# Altium footprint library PDB.PcbLib: 48 footprints (part 2 of 3)
Each footprint in its own frame and in the unit in brackets; x right, y up, seen from the top. Pads: shape width x height; smd on the part's side, far side on the other; paste and mask are expansions set on the pad; w line width, h text height; cw(c..) or ccw(c..) is an arc to the next point about the centre after c.
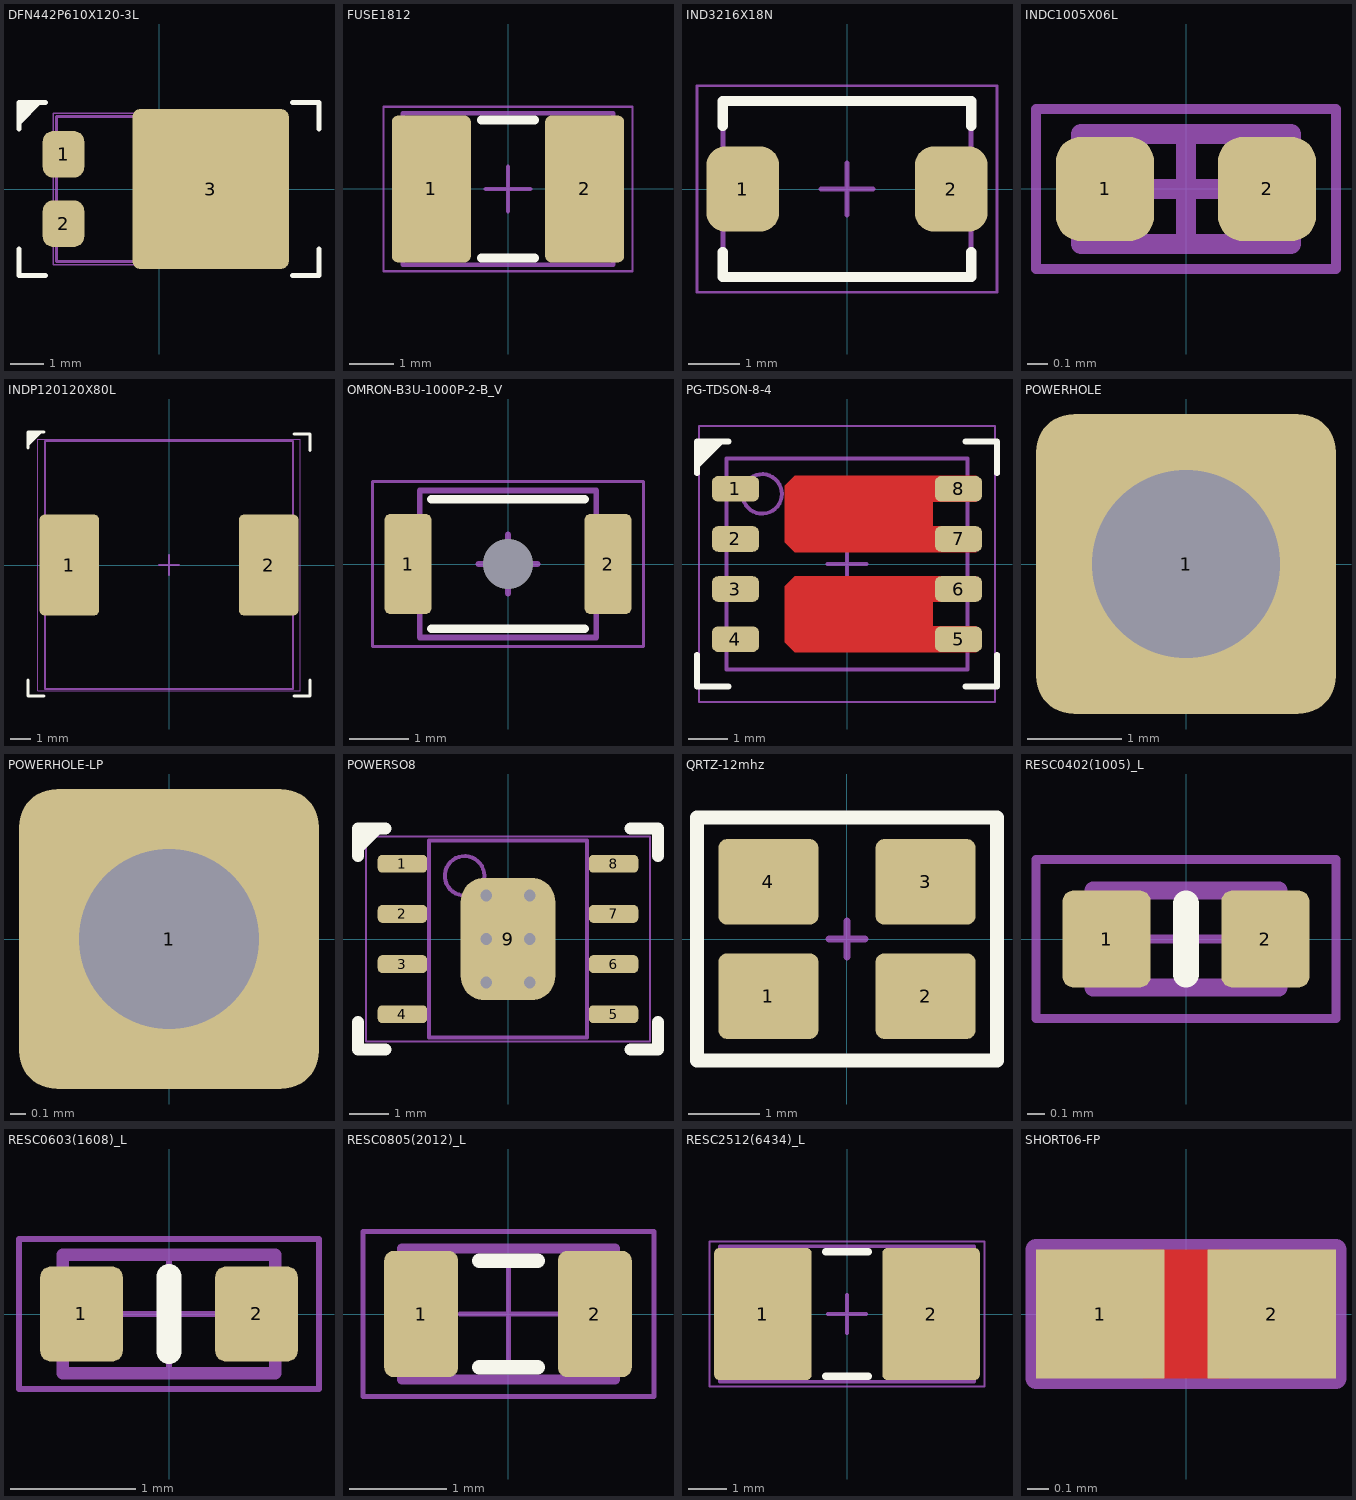
[diagram p1: the footprints below, top view; thin cyan lines are the x and y axes]

## DFN442P610X120-3L [mm] "DFN, 3-Leads, Body 4,30x6,10mm, Pitch 4,42mm, IPC High Density"
height 1.2
pads (3):
  rrect50% 1.25x1.4 smd: 1(-2.865,1.04) 2(-2.865,-1.04)
  rrect10% 4.7x4.8 smd: 3(1.55,0)
Top Overlay:
  region: -4.2,1.9 -3.5,2.6 -4.2,2.6
  lines w0.15: -4.2,-1.8 -4.2,-2.6 -3.4,-2.6 ; -4.2,1.8 -4.2,2.6 -3.4,2.6 ; 4,-2.6 4.8,-2.6 4.8,-1.8 ; 4,2.6 4.8,2.6 4.8,1.8
Mechanical 13:
  lines w0.1: -3.075,-2.175 -3.075,2.175 3.075,2.175 3.075,-2.175 -3.075,-2.175
Mechanical 15:
  lines w0.05: -3.175,-2.275 -3.175,2.275 3.175,2.275 3.175,-2.275 -3.175,-2.275
  lines w0.1: -0.5,0 0.5,0 ; 0,-0.5 0,0.5
3D body "DFN442P610X120-3L.step": height 1.2, standoff 0, extent -3.937,-2.159 4.518,2.191

## FUSE1812 [mm] "FUSE, 2-Leads, Body 4,55x3,24mm, IPC High Density"
height 1.25
pads (2):
  rrect15% 1.78x3.3 smd: 1(-1.725,0) 2(1.725,0)
Top Overlay:
  lines w0.2: -0.6,-1.55 0.6,-1.55 ; -0.6,1.55 0.6,1.55
Top Assembly:
  lines w0.1: -2.365,-1.705 -2.365,1.705 2.365,1.705 2.365,-1.705 -2.365,-1.705
Mechanical 15:
  lines w0.05: -2.8,-1.85 -2.8,1.85 2.8,1.85 2.8,-1.85 -2.8,-1.85
  lines w0.1: -0.5,0 0.5,0 ; 0,-0.5 0,0.5
3D body "User Library-1812L.STEP": height 1.34, standoff 0, extent -2.365,-1.705 2.365,1.705

## IND3216X18N [mm]
height 3.4
pads (2):
  rrect50% 1.4x1.64 smd: 1(-2.015,0) 2(2.015,0)
Top Overlay:
  lines w0.2: -2.4,-1.22 -2.4,-1.7 2.4,-1.7 2.4,-1.22 ; -2.4,1.22 -2.4,1.7 2.4,1.7 2.4,1.22
Top Assembly:
  lines w0.1: -2.4,-1.7 -2.4,1.7 2.4,1.7 2.4,-1.7 -2.4,-1.7
Mechanical 15:
  lines w0.05: -2.9,-2 -2.9,2 2.9,2 2.9,-2 -2.9,-2
  lines w0.1: -0.5,0 0.5,0 ; 0,-0.5 0,0.5
3D body "CAPM3216X18N.step": height 3.4, standoff 0, extent -2.62,-1.7 2.62,1.7

## INDC1005X06L [mm] "Chip Inductor, 2-Leads, Body 1,00x0,50mm, IPC High Density"
height 0.55
pads (2):
  rrect50% 0.49x0.52 smd: 1(-0.405,0) 2(0.405,0)
Top Assembly:
  lines w0.1: -0.525,-0.275 -0.525,0.275 0.525,0.275 0.525,-0.275 -0.525,-0.275
Mechanical 15:
  lines w0.05: -0.75,-0.4 -0.75,0.4 0.75,0.4 0.75,-0.4 -0.75,-0.4
  lines w0.1: -0.275,0 0.275,0 ; 0,-0.275 0,0.275
3D body "INDC1005X06L.step": height 0.55, standoff 0, extent -0.525,-0.275 0.525,0.275

## INDP120120X80L [mm] "Precision Wire Wound Inductor, 2-Leads, Body 12,00x12,00mm, IPC High Density"
height 8
pads (2):
  rrect15% 2.95x5 smd: 1(-4.95,0) 2(4.95,0)
Top Overlay:
  region: -7,5.9 -6.3,6.6 -7,6.6
  lines w0.15: -7,-5.7 -7,-6.5 -6.2,-6.5 ; -7,5.8 -7,6.6 -6.2,6.6 ; 6.2,-6.5 7,-6.5 7,-5.7 ; 6.2,6.5 7,6.5 7,5.7
Top Assembly:
  lines w0.1: -6.15,-6.15 6.15,-6.15 6.15,6.15 -6.15,6.15 -6.15,-6.15
Mechanical 15:
  lines w0.05: -6.525,-6.25 6.525,-6.25 6.525,6.25 -6.525,6.25 -6.525,-6.25
  lines w0.1: -0.5,0 0.5,0 ; 0,-0.5 0,0.5
3D body "INDP120120X80L.step": height 8.1, standoff 0, extent -6.1,-6 6.1,6

## OMRON-B3U-1000P-2-B_V [mm]
pads (3):
  rrect25% 0.8x1.7 smd: 1(-1.7,0) 2(1.7,0)
  round 0 hole 0.85 unplated: H1(0,0)
Top Overlay:
  lines w0.15: -1.3,-1.1 1.3,-1.1 ; -1.3,1.1 1.3,1.1
Top Assembly:
  lines w0.05: -2.3,-1.4 -2.3,1.4 2.3,1.4 2.3,-1.4 -2.3,-1.4
  lines w0.1: -0.5,0 0.5,0 ; 0,-0.5 0,0.5
Top 3D Body:
  lines w0.1: -1.5,-1.25 -1.5,1.25 1.5,1.25 1.5,-1.25 -1.5,-1.25
3D body "OMRON_B3U1000P.step": height 1.6, standoff 0, extent -2,-1.25 2,1.25

## PG-TDSON-8-4 [mm] "SON, 8-Leads, Body 5,15x5,90mm, Pitch 1,27mm, IPC High Density"
height 1
pads (8):
  rrect50% 1.2x0.65 smd: 1(-2.825,1.905) 2(-2.825,0.635) 3(-2.825,-0.635) 4(-2.825,-1.905) 5(2.825,-1.905) 6(2.825,-0.635) 7(2.825,0.635) 8(2.825,1.905)
Top Layer:
  region: 3.275,2.23 -1.325,2.23 -1.575,1.98 -1.575,0.55 -1.325,0.3 3.275,0.3 3.275,0.961 2.175,0.961 2.175,1.579 3.275,1.579
  region: 3.275,-0.311 -1.325,-0.311 -1.575,-0.561 -1.575,-1.98 -1.325,-2.23 3.275,-2.23 3.275,-1.58 2.175,-1.58 2.175,-0.959 3.275,-0.959
Top Overlay:
  region: -3.8,2.4 -3.1,3.1 -3.8,3.1
  lines w0.15: -3.8,-2.3 -3.8,-3.1 -3,-3.1 ; -3.8,2.3 -3.8,3.1 -3,3.1 ; 3,-3.1 3.8,-3.1 3.8,-2.3 ; 3,3.1 3.8,3.1 3.8,2.3
Top Assembly:
  circle w0.1: c-2.15,1.775 r0.5
  lines w0.1: -3.05,-2.675 3.05,-2.675 3.05,2.675 -3.05,2.675 -3.05,-2.675
Mechanical 15:
  lines w0.05: -3.75,-3.5 3.75,-3.5 3.75,3.5 -3.75,3.5 -3.75,-3.5
  lines w0.1: -0.5,0 0.5,0 ; 0,-0.5 0,0.5
3D body "SON127P590X100-8L.step": height 1, standoff 0, extent -3.1,-2.675 3.1,2.675

## POWERHOLE [mm]
pads (1):
  rrect25% 3.2x3.2 hole 2: 1(0,0)

## POWERHOLE-LP [mm]
pads (1):
  rrect25% 2x2 hole 1.2: 1(0,0)

## POWERSO8 [mm] "SOIC, 8-Leads, Body 4,90x3,90mm, Pitch 1,27mm, Thermal Pad 3,10x2,40mm, IPC High Density"
height 1.7
pads (9):
  rrect50% 1.25x0.45 smd: 1(-2.675,1.905) 2(-2.675,0.635) 3(-2.675,-0.635) 4(-2.675,-1.905) 5(2.675,-1.905) 6(2.675,-0.635) 7(2.675,0.635) 8(2.675,1.905)
  rrect50% 2.4x3.1 smd: 9(0,0)
via 0.55,-1.1 diameter 0.6 hole 0.3
via -0.55,-1.1 diameter 0.6 hole 0.3
via 0.55,0 diameter 0.6 hole 0.3
via -0.55,0 diameter 0.6 hole 0.3
via 0.55,1.1 diameter 0.6 hole 0.3
via -0.55,1.1 diameter 0.6 hole 0.3
Top Overlay:
  region: -3.8,2.2 -3.7,2.2 -3.1,2.8 -3.8,2.8
  lines w0.3: -3.8,-2.1 -3.8,-2.8 -3.1,-2.8 ; -3.8,2.1 -3.8,2.8 -3.1,2.8 ; 3.1,-2.8 3.8,-2.8 3.8,-2.1 ; 3.1,2.8 3.8,2.8 3.8,2.1
Top Assembly:
  circle w0.1: c-1.1,1.6 r0.5
  lines w0.1: -2,-2.5 2,-2.5 2,2.5 -2,2.5 -2,-2.5
Mechanical 15:
  lines w0.05: -3.6,-2.6 3.6,-2.6 3.6,2.6 -3.6,2.6 -3.6,-2.6
  lines w0.1: -0.5,0 0.5,0 ; 0,-0.5 0,0.5
3D body "SOIC127P600X170_HS-9L.step": height 1.7, standoff 0, extent -3,-2.5 3,2.5

## QRTZ-12mhz [mm]
height 1
pads (4):
  rrect20% 1.4x1.2 smd: 1(-1.1,-0.8) 2(1.1,-0.8) 3(1.1,0.8) 4(-1.1,0.8)
Top Overlay:
  lines w0.2: -2.1,-1.7 2.1,-1.7 2.1,1.7 -1.7,1.7 -2.1,1.7 -2.1,-1.7
Mechanical 15:
  lines w0.1: -0.25,0 0.25,0 ; 0,-0.25 0,0.25 ; -2.1,-1.7 2.1,-1.7 2.1,1.7 -2.1,1.7 -2.1,-1.7
3D body "det.stp": height 0.8, standoff 0, extent -1.6,-1.25 1.6,1.25

## RESC0402(1005)_L [mm]
pads (2):
  rrect25% 0.5x0.55 smd: 1(-0.45,0) 2(0.45,0)
Top Overlay:
  lines w0.15: 0,-0.2 0,0.2
Top Assembly:
  lines w0.05: -0.275,0 0.275,0 ; 0,-0.275 0,0.275 ; -0.85,-0.45 -0.85,0.45 0.85,0.45 0.85,-0.45 -0.85,-0.45
Top 3D Body:
  lines w0.1: -0.525,-0.275 -0.525,0.275 0.525,0.275 0.525,-0.275 -0.525,-0.275
3D body "RES0402.step": height 0.3, standoff 0, extent -0.5,-0.25 0.5,0.25

## RESC0603(1608)_L [mm]
pads (2):
  rrect25% 0.66x0.76 smd: 1(-0.7,0) 2(0.7,0)
Top Overlay:
  lines w0.2: 0,-0.3 0,0.3
Bottom 3D Body:
  lines w0.1: -0.85,-0.475 -0.85,0.475 0.85,0.475 0.85,-0.475 -0.85,-0.475
Bottom Assembly:
  lines w0.05: -0.475,0 0.475,0 ; 0,-0.475 0,0.475 ; -1.2,-0.6 -1.2,0.6 1.2,0.6 1.2,-0.6 -1.2,-0.6
3D body "RES0603.step": height 0.45, standoff 0, extent -0.8,-0.4 0.8,0.4

## RESC0805(2012)_L [mm]
pads (2):
  rrect25% 0.76x1.3 smd: 1(-0.9,0) 2(0.89,0)
Top Overlay:
  lines w0.15: -0.3,-0.55 0.3,-0.55 ; -0.3,0.55 0.3,0.55
Top Assembly:
  lines w0.05: -0.5,0 0.5,0 ; 0,-0.5 0,0.5 ; -1.5,-0.85 1.5,-0.85 1.5,0.85 -1.5,0.85 -1.5,-0.85
Top 3D Body:
  lines w0.1: -1.1,-0.675 1.1,-0.675 1.1,0.675 -1.1,0.675 -1.1,-0.675
3D body "RES0805.step": height 0.6, standoff 0, extent -1,-0.625 1,0.625

## RESC2512(6434)_L [mm] "Chip Resistor, 2-Leads, Body 6,45x3,35mm, IPC High Density"
height 0.9
pads (2):
  rrect10% 2.55x3.45 smd: 1(-2.2,0) 2(2.2,0)
Top Overlay:
  lines w0.2: -0.55,-1.625 0.55,-1.625 ; -0.55,1.625 0.55,1.625
Top Assembly:
  lines w0.1: -3.325,-1.775 3.325,-1.775 3.325,1.775 -3.325,1.775 -3.325,-1.775
Mechanical 15:
  lines w0.05: -3.6,-1.9 3.6,-1.9 3.6,1.9 -3.6,1.9 -3.6,-1.9
  lines w0.1: -0.5,0 0.5,0 ; 0,-0.5 0,0.5
3D body "RESC6434X09L.step": height 0.9, standoff 0, extent -3.325,-1.775 3.325,1.775

## SHORT06-FP [mm]
pads (2):
  rect 0.6x0.6 smd paste-0.4 mask+0.102: 1(-0.4,0) 2(0.4,0)
Top Layer:
  region: -0.2,0.3
  region: -0.2,0.3 -0.2,-0.3 0.2,-0.3 0.2,0.3
Top 3D Body:
  lines w0.1: -0.7,-0.3 0.7,-0.3 0.7,0.3 -0.7,0.3 -0.7,-0.3